# EAGLE library part FPC_10PIN_0_5MM_FPC_10P_0_5MM (library Mini-Lora_v2_2)
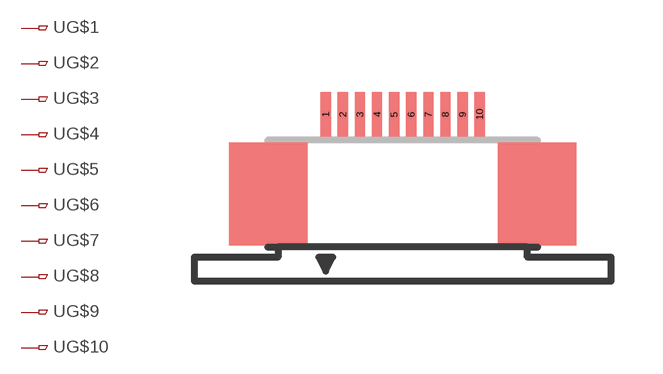
[diagram p7: symbol with the pads of FPC_10PIN_0_5MM_FH12-10S-0.5SH; footprint FPC_10PIN_0_5MM_FH12-10S-0.5SH]

Designator prefix -; gates G$1=FPC_10PIN_0_5MM_PIN G$2=FPC_10PIN_0_5MM_PIN G$3=FPC_10PIN_0_5MM_PIN G$4=FPC_10PIN_0_5MM_PIN G$5=FPC_10PIN_0_5MM_PIN G$6=FPC_10PIN_0_5MM_PIN G$7=FPC_10PIN_0_5MM_PIN G$8=FPC_10PIN_0_5MM_PIN G$9=FPC_10PIN_0_5MM_PIN G$10=FPC_10PIN_0_5MM_PIN

## FPC_10PIN_0_5MM_FPC_10P_0_5MM  [FPC_10PIN_0_5MM_FH12-10S-0.5SH]
1  G$1:1  pas
2  G$2:1  pas
3  G$3:1  pas
4  G$4:1  pas
5  G$5:1  pas
6  G$6:1  pas
7  G$7:1  pas
8  G$8:1  pas
9  G$9:1  pas
10  G$10:1  pas

## Footprint FPC_10PIN_0_5MM_FH12-10S-0.5SH (pad centres in mm)
0.5mm Pitch Connectors For FPC/FFC Source: Data sheet <http://www.hirose.co.jp/cataloge_hp/e58605370.pdf>
smd 0.3 x 1.3: 1 -2.25,3.25; 2 -1.75,3.25; 3 -1.25,3.25; 4 -0.75,3.25; 5 -0.25,3.25; 6 0.25,3.25; 7 0.75,3.25; 8 1.25,3.25; 9 1.75,3.25; 10 2.25,3.25